# EAGLE library part DEMUX (library Layout)
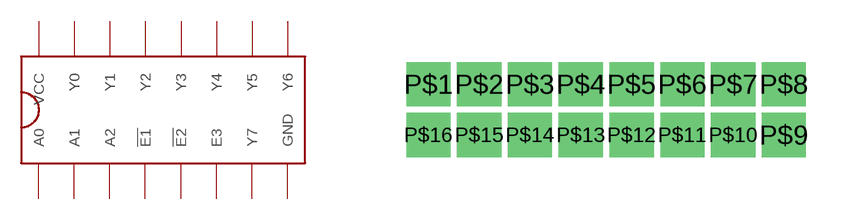
[diagram p1: symbol with the pads of DEMUX; footprint DEMUX]

Designator prefix -

## DEMUX  [DEMUX]
P$1  !E1
P$2  !E2
P$3  A0
P$4  A1
P$5  A2
P$6  E3
P$7  GND
P$8  VCC
P$9  Y0
P$10  Y1
P$11  Y2
P$12  Y3
P$13  Y4
P$14  Y5
P$15  Y6
P$16  Y7

## Footprint DEMUX (pad centres in mm)
drill 0.6 square: P$1 -7.62,2.54; P$2 -6.35,2.54; P$3 -5.08,2.54; P$4 -3.81,2.54; P$5 -2.54,2.54; P$6 -1.27,2.54; P$7 0,2.54; P$8 1.27,2.54; P$9 1.27,1.27; P$10 0,1.27; P$11 -1.27,1.27; P$12 -2.54,1.27; P$13 -3.81,1.27; P$14 -5.08,1.27; P$15 -6.35,1.27; P$16 -7.62,1.27